# Altium schematic symbol library MCP9701AT-ETT.Schlib: 1 symbol
Pins are listed as number, name and electrical type; pins without a type are passive.

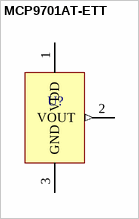
[diagram p0: symbol MCP9701AT-ETT]

## MCP9701AT-ETT
designator U?
pins: 1 VDD (power), 2 VOUT (out), 3 GND (power)